# Altium integrated library ECQE4473JF.IntLib: 1 symbol
Pins are listed as number, name and electrical type; pins without a type are passive.

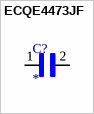
[diagram p0: symbol ECQE4473JF]

## ECQE4473JF
designator C?
MP: ECQE4473JF; Value: *; Availability: Unavailable; Price: None; Package: None
footprint CAPRR1000W60L1200T500H830
pins: 1, 2